# EAGLE library part MICROSD_8PIN (library Connectors)
Micro SD card holder
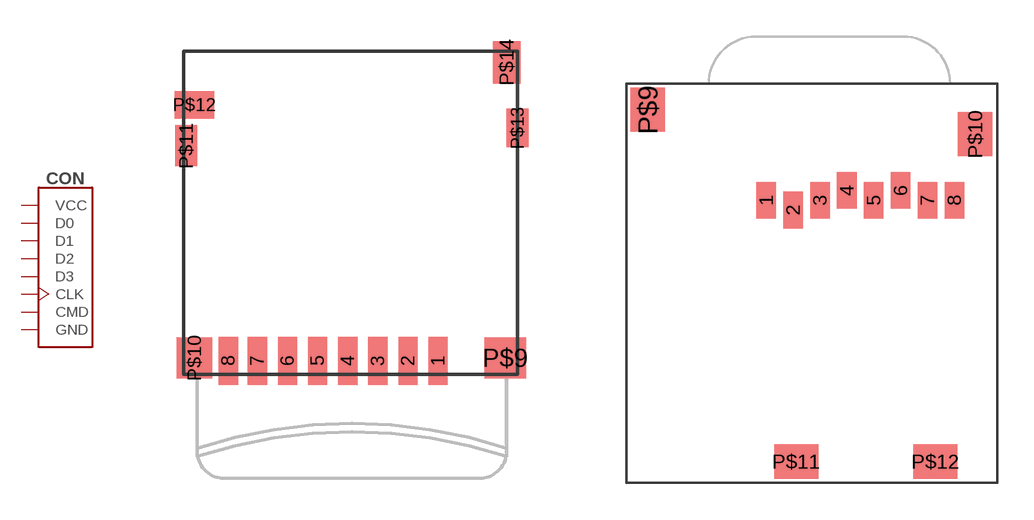
[diagram p2: symbol with the pads of 114-00841-68; footprints 114-00841-68, 500873-0801]

Designator prefix CON

## MICROSD_8PIN-AMP-114-00841-68 (DIGIKEY#: 114-00841-68-2-ND; MANF: Amphenol Commercial Products; MANF#: 114-00841-68)  [114-00841-68]
1  D2
2  D3
3  CMD
4  VCC  pas
5  CLK
6  GND  sup
7  D0  pas
8  D1  pas

## MICROSD_8PIN-500873-0801 (DIGIKEY#: WM19079TR-ND; MANF: MOLEX; MANF#: 500873-0801)  [500873-0801]
Pads as for 114-00841-68

## MICROSD_8PIN-104031-0811 (MANF: MOLEX; MANF#: 104031-0811)  [104031-0811]
1  D2
2  D3
3  CMD
4  VCC  pas
5  CLK
6  GND  sup
7  D0  pas
8  D1  pas
G1  GND  sup
G2  GND  sup
G3  GND  sup
G4  GND  sup

## MICROSD_8PIN-1051620001 (MANF: Molex; MANF#: 1051620001)  [1051620001]
G1  GND  sup
G2  GND  sup
G3  GND  sup
G4  GND  sup
P1  D2
P2  D3
P3  CMD
P4  VCC  pas
P5  CLK
P6  GND  sup
P7  D0  pas
P8  D1  pas

## Footprint 114-00841-68 (pad centres in mm)
smd 0.7 x 1.75: 1 7.7,-1; 2 6.6,-1; 3 5.5,-1; 4 4.4,-1; 5 3.3,-1; 6 2.2,-1; 7 1.1,-1; 8 0.04,-1
smd 1.5 x 1.5: P$9 10.15,-0.9
smd 1.3 x 1.5: P$10 -1.2,-0.9
smd 0.8 x 1.5: P$11 -1.5,6.85
smd 1.45 x 1: P$12 -1.2,8.35
smd 0.8 x 1.4: P$13 10.6,7.5
smd 1 x 1.55: P$14 10.2,9.9

## Footprint 500873-0801 (pad centres in mm)
smd 0.8 x 1.5: 1 5.725,11.575; 2 6.825,11.175; 3 7.925,11.575; 4 9.025,11.975; 5 10.125,11.575; 6 11.225,11.975; 7 12.325,11.575; 8 13.425,11.575
smd 1.4 x 1.8: P$9 0.875,15.275; P$10 14.275,14.275
smd 1.8 x 1.4: P$11 6.95,0.875; P$12 12.65,0.875

## Footprint 104031-0811 (pad centres in mm)
smd 0.85 x 1.1: 1 3.105,-5.45; 2 2.005,-5.45; 3 0.905,-5.45; 4 -0.195,-5.45; 5 -1.295,-5.45; 6 -2.395,-5.45; 7 -3.495,-5.45
smd 0.75 x 1.1: 8 -4.545,-5.45
smd 1.2 x 1: 9 5.74,0.7; 10 5.74,4.4
smd 1.55 x 1.35: G1 5.565,-5.325
smd 1.17 x 1.8: G2 -5.755,-5.1
smd 1.9 x 1.35: G3 -3.73,5.375; G4 2.24,5.375

## Footprint 1051620001 (pad centres in mm)
Product page <https://www.molex.com/molex/products/part-detail/memory_card_socket/1051620001>
smd 1.1 x 1.1: G1 5.8,3.1
smd 1.5 x 1.5: G2 5.7,5.7; G4 -5.1,5.1
smd 1.5 x 2.5: G3 -5.1,1.8
smd 3 x 0.7: NC1 -1.8,6.4; NC2 2.3,6.4
smd 0.5 x 1: P1 3.85,-0.95; P2 2.75,-0.95; P3 1.65,-0.95; P4 0.55,-0.95; P5 -0.55,-0.95; P6 -1.65,-0.95; P7 -2.75,-0.95; P8 -3.85,-0.95
smd 0.8 x 0.8: P9 5.7,1.8